# Altium schematic symbol library Полётник_компоненты.SchLib: 2 symbols
Pins are listed as number, name and electrical type; pins without a type are passive.

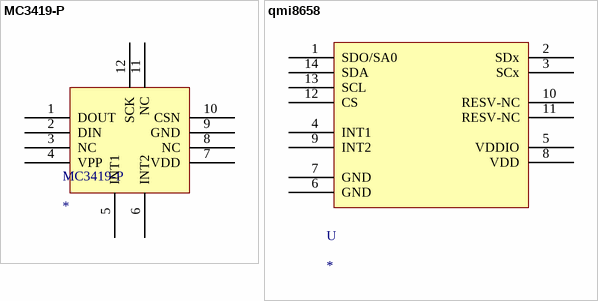
[diagram p0: symbols MC3419-P to qmi8658]

## MC3419-P
designator MC3419-P
pins: 1 DOUT, 2 DIN, 3 NC, 4 VPP, 5 INT1, 6 INT2, 7 VDD, 8 NC, 9 GND, 10 CSN, 11 NC, 12 SCK

## qmi8658
designator U
pins: 1 SDO/SA0, 2 SDx, 3 SCx, 4 INT1, 5 VDDIO, 6 GND, 7 GND, 8 VDD, 9 INT2, 10 RESV-NC, 11 RESV-NC, 12 CS, 13 SCL, 14 SDA